# EAGLE library part IS42S16400J-6TL (library issi-dram-64mbit-IS42S16400J-6TL)
IC SDRAM 64MBIT 166MHZ 54TSOP Source: Datasheet <http://www.issi.com/WW/pdf/42-45S16400J.pdf>
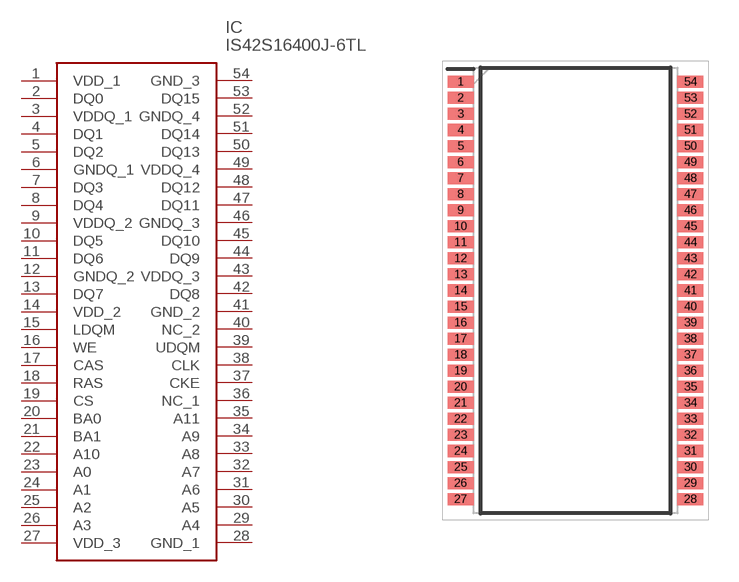
[diagram p0: symbol with the pads of SOP80P1176X120-54N; footprint SOP80P1176X120-54N]

Designator prefix IC

## IS42S16400J-6TL (Arrow_Part_Number: IS42S16400J-6TL; Arrow_Price-Stock: https://www.arrow.com/en/products/is42s16400j-6tl/integrated-silicon-solution-inc?region=nac; Description: IC SDRAM 64MBIT 166MHZ 54TSOP; Height: 1.2mm; Manufacturer_Name: Integrated Silicon Solution Inc.; Manufacturer_Part_Number: IS42S16400J-6TL; Mouser_Part_Number: 870-IS42S16400J-6TL; Mouser_Price-Stock: https://www.mouser.co.uk/ProductDetail/ISSI/IS42S16400J-6TL?qs=eOmjsnl%2FhF5I5xcs3%252ByNmg%3D%3D)  [SOP80P1176X120-54N]
1  VDD_1  pwr
2  DQ0
3  VDDQ_1  pwr
4  DQ1
5  DQ2
6  GNDQ_1  pwr
7  DQ3
8  DQ4
9  VDDQ_2  pwr
10  DQ5
11  DQ6
12  GNDQ_2  pwr
13  DQ7
14  VDD_2  pwr
15  LDQM  in
16  WE  in
17  CAS  in
18  RAS  in
19  CS  in
20  BA0  in
21  BA1  in
22  A10  in
23  A0  in
24  A1  in
25  A2  in
26  A3  in
27  VDD_3  pwr
28  GND_1  pwr
29  A4  in
30  A5  in
31  A6  in
32  A7  in
33  A8  in
34  A9  in
35  A11  in
36  NC_1
37  CKE  in
38  CLK  in
39  UDQM  in
40  NC_2
41  GND_2  pwr
42  DQ8
43  VDDQ_3  pwr
44  DQ9
45  DQ10
46  GNDQ_3  pwr
47  DQ11
48  DQ12
49  VDDQ_4  pwr
50  DQ13
51  DQ14
52  GNDQ_4  pwr
53  DQ15
54  GND_3  pwr

## Footprint SOP80P1176X120-54N (pad centres in mm)
54L 400mil TSOP-2
smd 1.295 x 0.6: 1 -5.728,10.4; 2 -5.728,9.6; 3 -5.728,8.8; 4 -5.728,8; 5 -5.728,7.2; 6 -5.728,6.4; 7 -5.728,5.6; 8 -5.728,4.8; 9 -5.728,4; 10 -5.728,3.2; 11 -5.728,2.4; 12 -5.728,1.6; 13 -5.728,0.8; 14 -5.728,0; 15 -5.728,-0.8; 16 -5.728,-1.6; 17 -5.728,-2.4; 18 -5.728,-3.2; 19 -5.728,-4; 20 -5.728,-4.8; 21 -5.728,-5.6; 22 -5.728,-6.4; 23 -5.728,-7.2; 24 -5.728,-8; 25 -5.728,-8.8; 26 -5.728,-9.6; 27 -5.728,-10.4; 28 5.728,-10.4; 29 5.728,-9.6; 30 5.728,-8.8; 31 5.728,-8; 32 5.728,-7.2; 33 5.728,-6.4; 34 5.728,-5.6; 35 5.728,-4.8; 36 5.728,-4; 37 5.728,-3.2; 38 5.728,-2.4; 39 5.728,-1.6; 40 5.728,-0.8; 41 5.728,0; 42 5.728,0.8; 43 5.728,1.6; 44 5.728,2.4; 45 5.728,3.2; 46 5.728,4; 47 5.728,4.8; 48 5.728,5.6; 49 5.728,6.4; 50 5.728,7.2; 51 5.728,8; 52 5.728,8.8; 53 5.728,9.6; 54 5.728,10.4